# EAGLE library part DW01A (library Bat_Node)
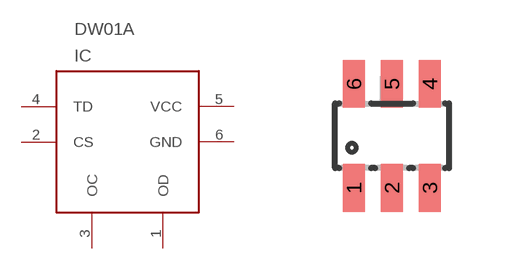
[diagram p1: symbol with the pads of SOT23-6; footprint SOT23-6]

Designator prefix IC

## DW01A (AVAILABILITY: Unavailable; DESCRIPTION: Pushbutton Switch SPST-NC Standard Panel Mount, Front; MF: Fortune Semiconductor; MP: DW01A; PACKAGE: Package Analog Devices; PRICE: None)  [SOT23-6]
1  OD
2  CS
3  OC
4  TD
5  VCC  pwr
6  GND  pwr

## Footprint SOT23-6 (pad centres in mm)
smd 0.55 x 1.2: 1 -0.95,-1.3; 2 0,-1.3; 3 0.95,-1.3; 4 0.95,1.3; 5 0,1.3; 6 -0.95,1.3